# Altium footprint library PCB_Lib.PcbLib: 31 footprints (part 2 of 2)
Each footprint in its own frame and in the unit in brackets; x right, y up, seen from the top. Pads: shape width x height; smd on the part's side, far side on the other; paste and mask are expansions set on the pad; w line width, h text height; cw(c..) or ccw(c..) is an arc to the next point about the centre after c.
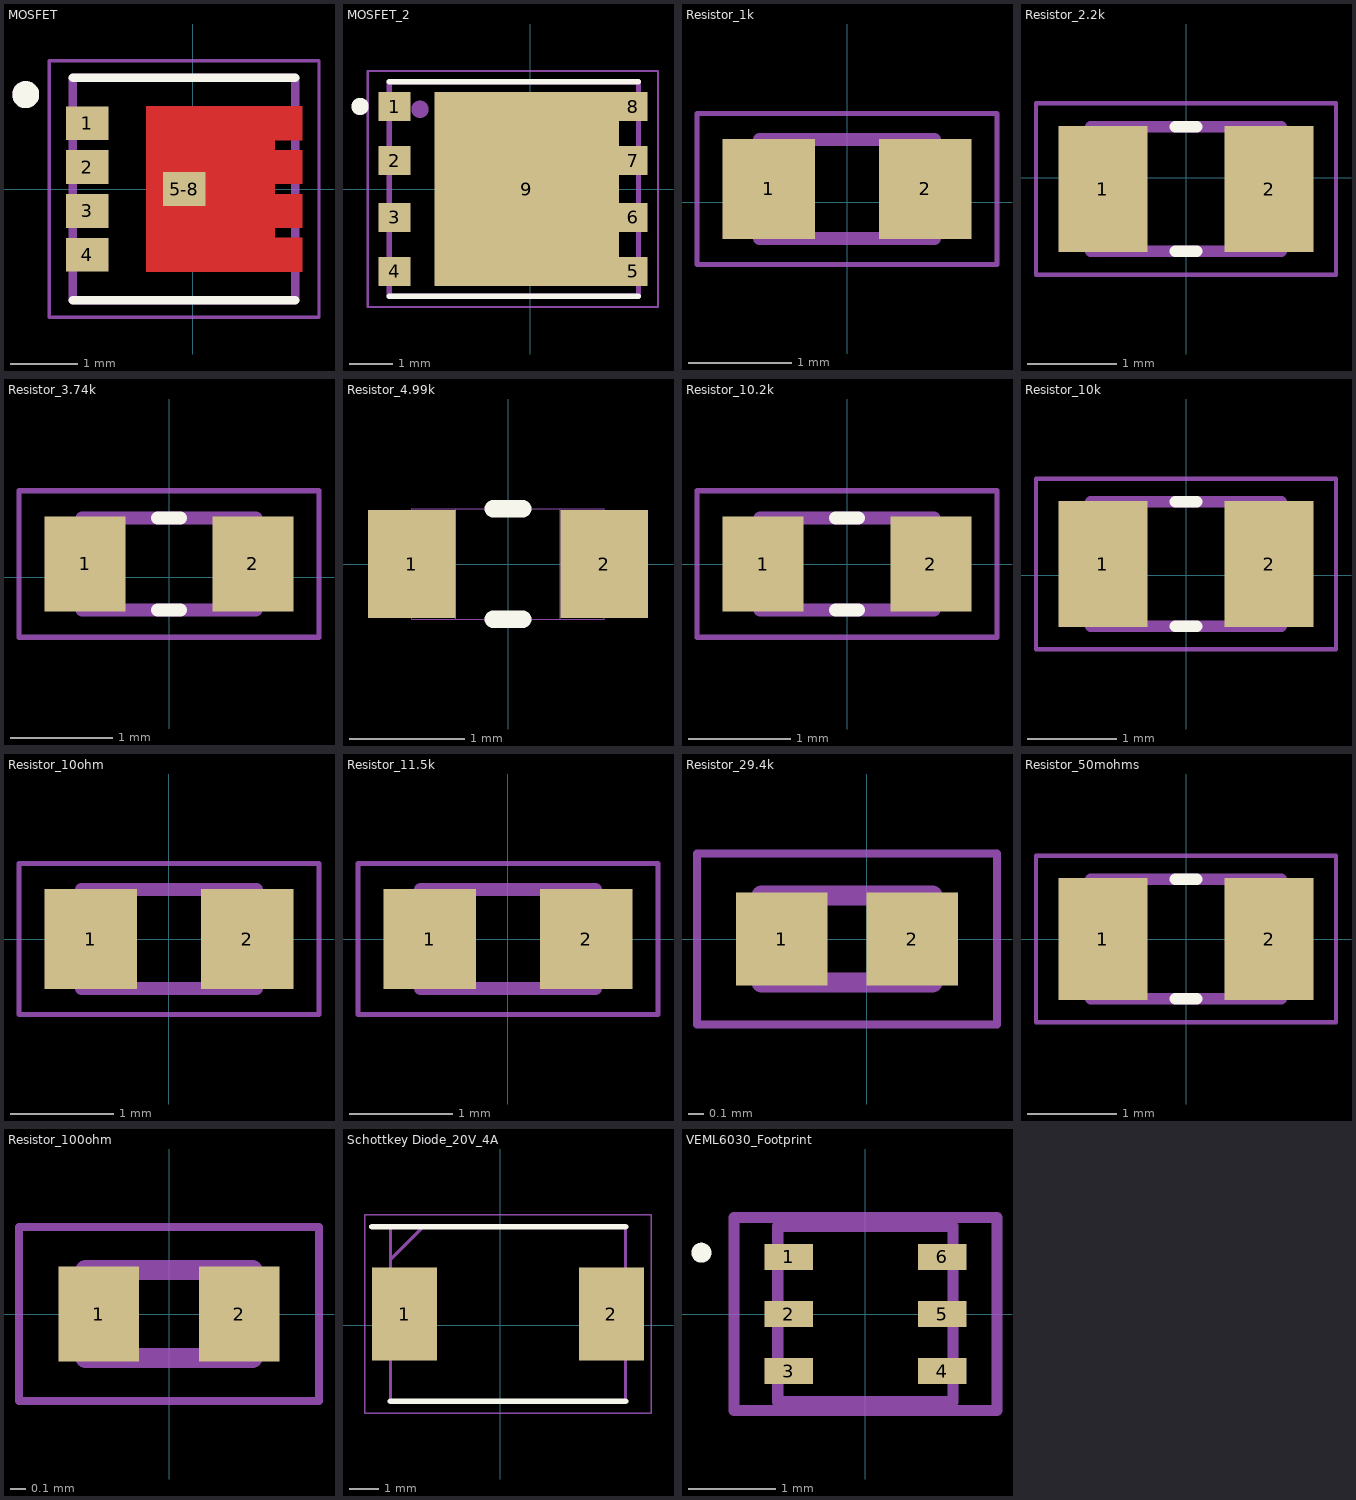
[diagram p1: the footprints below, top view; thin cyan lines are the x and y axes]

## MOSFET [mm]
pads (5):
  rect 0.63x0.5 smd paste-1: 1(-1.562,0.975) 2(-1.562,0.325) 3(-1.562,-0.325) 4(-1.562,-0.975)
  rect 0.63x0.5 smd paste-1 mask+0: 5-8(-0.127,0)
Top Layer:
  region: 1.623,0.725 1.213,0.725 1.213,0.575 1.623,0.575 1.623,0.075 1.213,0.075 1.213,-0.075 1.623,-0.075 1.623,-0.575 1.213,-0.575 1.213,-0.725 1.623,-0.725 1.623,-1.225 -0.687,-1.225 -0.687,1.225 1.623,1.225
Top Overlay:
  circle w0.2: c-2.477,1.4 r0.1
  lines w0.127: -1.777,-1.65 1.523,-1.65 ; -1.777,1.65 1.523,1.65
Top Paste:
  region: 0.858,0.125 -0.587,0.125 -0.587,1.145 0.858,1.145
  region: 1.533,0.155 1.083,0.155 1.083,0.495 1.533,0.495
  region: 1.533,0.805 1.083,0.805 1.083,1.145 1.533,1.145
  region: 1.533,-0.495 1.083,-0.495 1.083,-0.155 1.533,-0.155
  region: 1.533,-1.145 1.083,-1.145 1.083,-0.805 1.533,-0.805
  region: -1.337,-0.495 -1.787,-0.495 -1.787,-0.155 -1.337,-0.155
  region: -1.337,-1.145 -1.787,-1.145 -1.787,-0.805 -1.337,-0.805
  region: -1.337,0.155 -1.787,0.155 -1.787,0.495 -1.337,0.495
  region: -1.337,0.805 -1.787,0.805 -1.787,1.145 -1.337,1.145
  region: 0.858,-1.145 -0.587,-1.145 -0.587,-0.125 0.858,-0.125
Top Solder:
  region: 1.723,-1.325 -0.787,-1.325 -0.787,1.325 1.723,1.325
Mechanical 13:
  circle w0.2: c-2.477,1.4 r0.1
  lines w0.127: -1.777,-1.65 1.523,-1.65 1.523,1.65 -1.777,1.65 -1.777,-1.65
Mechanical 15:
  lines w0.05: -2.127,-1.9 1.873,-1.9 1.873,1.9 -2.127,1.9 -2.127,-1.9

## MOSFET_2 [mm]
pads (9):
  rect 0.75x0.675 smd paste-1: 1(-3.157,1.917) 2(-3.157,0.66) 3(-3.157,-0.66) 4(-3.157,-1.917)
  rect 0.655x0.675 smd paste-1: 5(2.395,-1.917) 6(2.395,-0.66) 7(2.395,0.66) 8(2.395,1.917)
  rect 4.295x4.51 smd paste-3: 9(-0.08,0)
Top Overlay:
  circle w0.3: c-3.959,1.921 r0.05
  lines w0.127: -3.281,-2.5 2.519,-2.5 ; -3.281,2.5 2.519,2.5
Top Paste:
  region: -0.555,0.31 -1.79,0.31 -1.79,1.88 -0.555,1.88
  region: 1.53,0.31 -0.054,0.31 -0.054,1.88 1.53,1.88
  region: -0.555,-1.883 -1.792,-1.883 -1.792,-0.31 -0.555,-0.31
  region: 1.53,-1.882 -0.054,-1.882 -0.054,-0.31 1.53,-0.31
  region: 2.645,1.668 2.146,1.668 2.146,2.167 2.645,2.167
  region: 2.645,0.41 2.147,0.41 2.147,0.91 2.645,0.91
  region: 2.645,-0.91 2.147,-0.91 2.147,-0.41 2.645,-0.41
  region: 2.645,-2.172 2.15,-2.172 2.15,-1.667 2.645,-1.667
  region: -2.907,1.67 -3.411,1.67 -3.411,2.167 -2.907,2.167
  region: -2.907,0.41 -3.408,0.41 -3.408,0.91 -2.907,0.91
  region: -2.907,-0.91 -3.407,-0.91 -3.407,-0.41 -2.907,-0.41
  region: -2.907,-2.171 -3.412,-2.171 -3.412,-1.667 -2.907,-1.667
Mechanical 13:
  circle w0.3: c-2.567,1.855 r0.05
  lines w0.127: -3.281,-2.5 -3.281,2.5 2.519,2.5 2.519,-2.5 -3.281,-2.5
Mechanical 15:
  lines w0.05: -3.782,-2.75 -3.782,2.75 2.973,2.75 2.973,-2.75 -3.782,-2.75

## Resistor_1k [mm]
pads (2):
  rect 0.9x0.97 smd: 1(-0.76,0.127) 2(0.76,0.127)
Mechanical 13:
  lines w0.127: -0.85,-0.353 -0.85,0.607 0.85,0.607 0.85,-0.353 -0.85,-0.353
Mechanical 15:
  lines w0.05: -1.46,-0.608 -1.46,0.862 1.46,0.862 1.46,-0.608 -1.46,-0.608

## Resistor_2.2k [mm]
pads (2):
  rect 1x1.42 smd: 1(-0.935,-0.127) 2(0.935,-0.127)
Top Overlay:
  lines w0.127: -0.12,-0.827 0.12,-0.827 ; -0.12,0.573 0.12,0.573
Mechanical 13:
  lines w0.127: -1.07,-0.827 -1.07,0.573 1.07,0.573 1.07,-0.827 -1.07,-0.827
Mechanical 15:
  lines w0.05: -1.685,-1.089 -1.685,0.835 1.685,0.835 1.685,-1.089 -1.685,-1.089
3D body "step_temp.STEP": height 0.65, standoff 0, extent -1,-0.752 1,0.498

## Resistor_3.74k [mm]
pads (2):
  rect 0.79x0.93 smd: 1(-0.82,0.127) 2(0.82,0.127)
Top Overlay:
  lines w0.127: -0.11,-0.323 0.11,-0.323 ; -0.11,0.577 0.11,0.577
Mechanical 13:
  lines w0.127: -0.85,-0.323 0.85,-0.323 0.85,0.577 -0.85,0.577 -0.85,-0.323
Mechanical 15:
  lines w0.05: -1.465,-0.588 1.465,-0.588 1.465,0.842 -1.465,0.842 -1.465,-0.588

## Resistor_4.99k [mil]
pads (2):
  rect 30x37 smd: 1(-33,0) 2(33,0)
Top Overlay:
  lines w6: -5,-19 5,-19 ; -5,19 5,19
Mechanical 13:
  lines w0: -18,-19 18,-19 ; -18,-19 -33,-19 -33,19 -18,19 ; -18,-19 -18,19 ; -18,19 18,19 ; 18,-19 33,-19 33,19 18,19 ; 18,-19 18,19

## Resistor_10.2k [mm]
pads (2):
  rect 0.79x0.93 smd: 1(-0.82,0) 2(0.82,0)
Top Overlay:
  lines w0.127: -0.11,-0.45 0.11,-0.45 ; -0.11,0.45 0.11,0.45
Mechanical 13:
  lines w0.127: -0.85,-0.45 0.85,-0.45 0.85,0.45 -0.85,0.45 -0.85,-0.45
Mechanical 15:
  lines w0.05: -1.465,-0.715 1.465,-0.715 1.465,0.715 -1.465,0.715 -1.465,-0.715
3D body "step_temp.STEP": height 0.55, standoff 0, extent -0.8,-0.4 0.8,0.4

## Resistor_10k [mm]
pads (2):
  rect 1x1.42 smd: 1(-0.935,0.127) 2(0.935,0.127)
Top Overlay:
  lines w0.127: -0.12,-0.573 0.12,-0.573 ; -0.12,0.827 0.12,0.827
Mechanical 13:
  lines w0.127: -1.07,-0.573 -1.07,0.827 1.07,0.827 1.07,-0.573 -1.07,-0.573
Mechanical 15:
  lines w0.05: -1.685,-0.833 -1.685,1.087 1.685,1.087 1.685,-0.833 -1.685,-0.833

## Resistor_10ohm [mm]
pads (2):
  rect 0.9x0.97 smd: 1(-0.758,0) 2(0.762,0)
Mechanical 13:
  lines w0.127: -0.848,-0.48 -0.848,0.48 0.852,0.48 0.852,-0.48 -0.848,-0.48
Mechanical 15:
  lines w0.05: -1.458,-0.735 -1.458,0.735 1.462,0.735 1.462,-0.735 -1.458,-0.735

## Resistor_11.5k [mm]
pads (2):
  rect 0.9x0.97 smd: 1(-0.758,0) 2(0.762,0)
Mechanical 13:
  lines w0.127: -0.848,-0.48 -0.848,0.48 0.852,0.48 0.852,-0.48 -0.848,-0.48
Mechanical 15:
  lines w0.05: -1.458,-0.735 -1.458,0.735 1.462,0.735 1.462,-0.735 -1.458,-0.735

## Resistor_29.4k [mm]
pads (2):
  rect 0.59x0.6 smd: 1(-0.547,0) 2(0.293,0)
Mechanical 13:
  lines w0.127: -0.677,-0.28 -0.677,0.28 0.423,0.28 0.423,-0.28 -0.677,-0.28
Mechanical 15:
  lines w0.05: -1.092,-0.55 -1.092,0.55 0.838,0.55 0.838,-0.55 -1.092,-0.55

## Resistor_50mohms [mm]
pads (2):
  rect 1x1.37 smd: 1(-0.935,0) 2(0.935,0)
Top Overlay:
  lines w0.127: -0.12,-0.67 0.12,-0.67 ; -0.12,0.67 0.12,0.67
Mechanical 13:
  lines w0.127: -1.07,-0.67 1.07,-0.67 1.07,0.67 -1.07,0.67 -1.07,-0.67
Mechanical 15:
  lines w0.05: -1.685,-0.935 1.685,-0.935 1.685,0.935 -1.685,0.935 -1.685,-0.935

## Resistor_100ohm [mm]
pads (2):
  rect 0.51x0.6 smd: 1(-0.445,0) 2(0.445,0)
Mechanical 13:
  lines w0.127: -0.53,-0.28 -0.53,0.28 0.53,0.28 0.53,-0.28 -0.53,-0.28
Mechanical 15:
  lines w0.05: -0.95,-0.55 -0.95,0.55 0.95,0.55 0.95,-0.55 -0.95,-0.55
3D body "step_temp.STEP": height 0.4, standoff 0, extent -0.5,-0.25 0.5,0.25

## Schottkey Diode_20V_4A [mm]
pads (2):
  rect 2.2x3.15 smd: 1(-3.246,0.381) 2(3.754,0.381)
Top Overlay:
  lines w0.2: -4.346,3.333 4.224,3.333 ; -3.716,-2.571 4.224,-2.571
Mechanical 13:
  lines w0.1: -3.716,2.233 -2.616,3.333 ; -3.716,-2.571 -3.716,3.333 4.224,3.333 4.224,-2.571 -3.716,-2.571
Mechanical 15:
  lines w0.05: -4.596,-2.979 -4.596,3.741 5.104,3.741 5.104,-2.979 -4.596,-2.979
3D body "SL42-E3_57T.stp": height 2.62, standoff 0, extent -3.716,-2.572 4.224,3.334

## VEML6030_Footprint [mm]
pads (6):
  rect 0.55x0.3 smd: 1(-0.875,0.65) 2(-0.875,0) 3(-0.875,-0.65) 4(0.875,-0.65) 5(0.875,0) 6(0.875,0.65)
Top Overlay:
  circle w0.127: c-1.87,0.699 r0.05
Mechanical 13:
  lines w0.127: -1,-1 -1,1 1,1 1,-1 -1,-1
Mechanical 15:
  lines w0.127: -1.5,-1.1 -1.5,1.1 1.5,1.1 1.5,-1.1 -1.5,-1.1
3D body "step_temp.STEP": height 0.87, standoff 0, extent -1,-1 1,1